# Altium footprint library SNP411-15.PcbLib: 1 footprints
Each footprint in its own frame and in the unit in brackets; x right, y up, seen from the top. Pads: shape width x height; smd on the part's side, far side on the other; paste and mask are expansions set on the pad; w line width, h text height; cw(c..) or ccw(c..) is an arc to the next point about the centre after c.
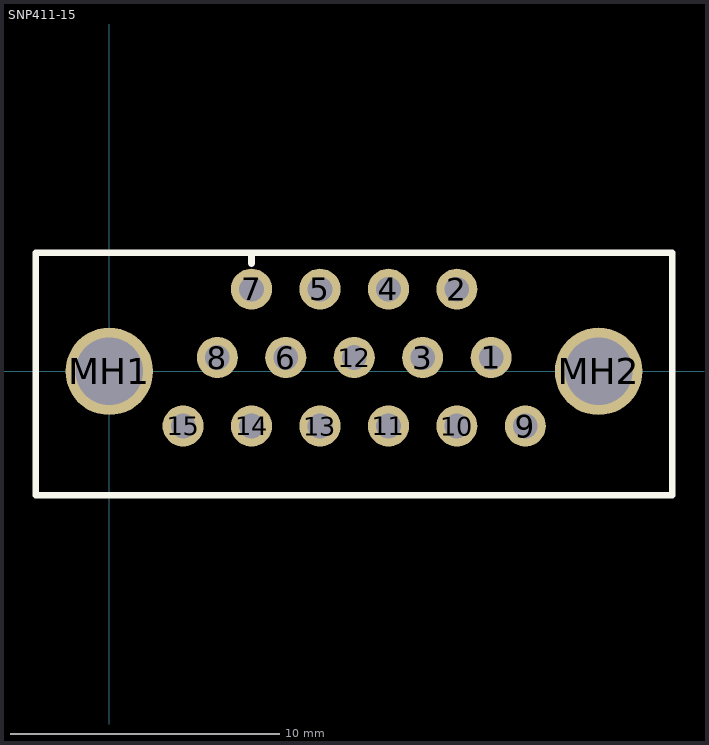
[diagram p0: the footprint, top view; thin cyan lines are the x and y axes]

## SNP411-15 [mil]
pads (17):
  round 60 hole 36: 1(557.87,20.08) 2(507.87,120.08) 3(457.87,20.08) 4(407.87,120.08) 5(307.87,120.08) 6(257.87,20.08) 7(207.87,120.08) 8(157.87,20.08) 9(607.87,-79.92) 10(507.87,-79.92) 11(407.87,-79.92) 12(357.87,20.08) 13(307.87,-79.92) 14(207.87,-79.92) 15(107.87,-79.92)
  round 128 hole 98.43: MH1(0,0) MH2(714.96,0)
Top Overlay:
  circle w7.87: c0,0 r51.18
  circle w7.87: c714.96,0 r51.18
  lines w10: 207.87,157.48 207.87,173.23 ; -107.3,-181.1 822.42,-181.1 822.42,173.23 -107.3,173.23 -107.3,-181.1
Mechanical 1:
  circle w7.87: c0,0 r51.18
  circle w7.87: c714.96,0 r51.18
3D body "SNP411-15RP31.stp": height 311.02, standoff -114.37, extent -108.66,-181.1 824.41,440.95